# Altium integrated library WS-DITU 2.54 mm piano type compact THT Dip Switch with raised actuator.IntLib: 9 symbols
Pins are listed as number, name and electrical type; pins without a type are passive.

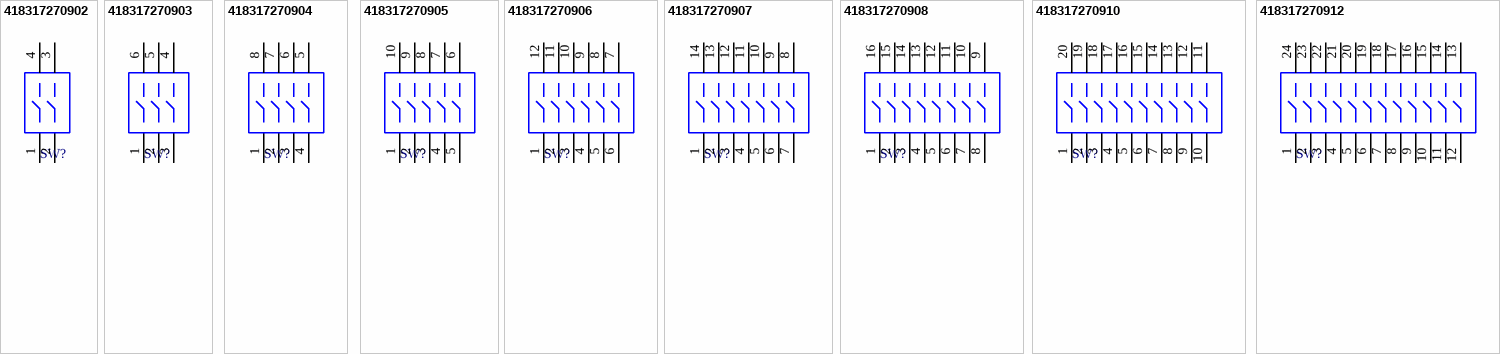
[diagram p0: symbols 418317270902 to 418317270912]

## 418317270902
designator SW?
WS-DITU 2.54 mm piano type compact THT Dip Switch with raised actuator; PartNumber: 418317270902; NoPins: 4; PackageReference: 418317270902; ComponentLink1Description: Manufacturer URL; ComponentLink1URL: http://www.we-online.com; ComponentLink2Description: Datasheet; ComponentLink2URL: http://katalog.we-online.de/em/datasheet/4183172709xx.pdf
footprint 418317270902 (02p, 2.54mm Pitch, Piano, Box Type, THT, raised Actuator, black, without Tape, Tube)
pins: 1, 2, 3, 4

## 418317270903
designator SW?
WS-DITU 2.54 mm piano type compact THT Dip Switch with raised actuator; PartNumber: 418317270903; NoPins: 6; PackageReference: 418317270903; ComponentLink1Description: Manufacturer URL; ComponentLink1URL: http://www.we-online.com; ComponentLink2Description: Datasheet; ComponentLink2URL: http://katalog.we-online.de/em/datasheet/4183172709xx.pdf
footprint 418317270903 (03p, 2.54mm Pitch, Piano, Box Type, THT, raised Actuator, black, without Tape, Tube)
pins: 1, 2, 3, 4, 5, 6

## 418317270904
designator SW?
WS-DITU 2.54 mm piano type compact THT Dip Switch with raised actuator; PartNumber: 418317270904; NoPins: 8; PackageReference: 418317270904; ComponentLink1Description: Manufacturer URL; ComponentLink1URL: http://www.we-online.com; ComponentLink2Description: Datasheet; ComponentLink2URL: http://katalog.we-online.de/em/datasheet/4183172709xx.pdf
footprint 418317270904 (04p, 2.54mm Pitch, Piano, Box Type, THT, raised Actuator, black, without Tape, Tube)
pins: 1, 2, 3, 4, 5, 6, 7, 8

## 418317270905
designator SW?
WS-DITU 2.54 mm piano type compact THT Dip Switch with raised actuator; PartNumber: 418317270905; NoPins: 10; PackageReference: 418317270905; ComponentLink1Description: Manufacturer URL; ComponentLink1URL: http://www.we-online.com; ComponentLink2Description: Datasheet; ComponentLink2URL: http://katalog.we-online.de/em/datasheet/4183172709xx.pdf
footprint 418317270905 (05p, 2.54mm Pitch, Piano, Box Type, THT, raised Actuator, black, without Tape, Tube)
pins: 1, 2, 3, 4, 5, 6, 7, 8, 9, 10

## 418317270906
designator SW?
WS-DITU 2.54 mm piano type compact THT Dip Switch with raised actuator; PartNumber: 418317270906; NoPins: 12; PackageReference: 418317270906; ComponentLink1Description: Manufacturer URL; ComponentLink1URL: http://www.we-online.com; ComponentLink2Description: Datasheet; ComponentLink2URL: http://katalog.we-online.de/em/datasheet/4183172709xx.pdf
footprint 418317270906 (06p, 2.54mm Pitch, Piano, Box Type, THT, raised Actuator, black, without Tape, Tube)
pins: 1, 2, 3, 4, 5, 6, 7, 8, 9, 10, 11, 12

## 418317270907
designator SW?
WS-DITU 2.54 mm piano type compact THT Dip Switch with raised actuator; PartNumber: 418317270907; NoPins: 14; PackageReference: 418317270907; ComponentLink1Description: Manufacturer URL; ComponentLink1URL: http://www.we-online.com; ComponentLink2Description: Datasheet; ComponentLink2URL: http://katalog.we-online.de/em/datasheet/4183172709xx.pdf
footprint 418317270907 (07p, 2.54mm Pitch, Piano, Box Type, THT, raised Actuator, black, without Tape, Tube)
pins: 1, 2, 3, 4, 5, 6, 7, 8, 9, 10, 11, 12, 13, 14

## 418317270908
designator SW?
WS-DITU 2.54 mm piano type compact THT Dip Switch with raised actuator; PartNumber: 418317270908; NoPins: 16; PackageReference: 418317270908; ComponentLink1Description: Manufacturer URL; ComponentLink1URL: http://www.we-online.com; ComponentLink2Description: Datasheet; ComponentLink2URL: http://katalog.we-online.de/em/datasheet/4183172709xx.pdf
footprint 418317270908 (08p, 2.54mm Pitch, Piano, Box Type, THT, raised Actuator, black, without Tape, Tube)
pins: 1, 2, 3, 4, 5, 6, 7, 8, 9, 10, 11, 12, 13, 14, 15, 16

## 418317270910
designator SW?
WS-DITU 2.54 mm piano type compact THT Dip Switch with raised actuator; PartNumber: 418317270910; NoPins: 20; PackageReference: 418317270910; ComponentLink1Description: Manufacturer URL; ComponentLink1URL: http://www.we-online.com; ComponentLink2Description: Datasheet; ComponentLink2URL: http://katalog.we-online.de/em/datasheet/4183172709xx.pdf
footprint 418317270910 (10p, 2.54mm Pitch, Piano, Box Type, THT, raised Actuator, black, without Tape, Tube)
pins: 1, 2, 3, 4, 5, 6, 7, 8, 9, 10, 11, 12, 13, 14, 15, 16, 17, 18, 19, 20

## 418317270912
designator SW?
WS-DITU 2.54 mm piano type compact THT Dip Switch with raised actuator; PartNumber: 418317270912; NoPins: 24; PackageReference: 418317270912; ComponentLink1Description: Manufacturer URL; ComponentLink1URL: http://www.we-online.com; ComponentLink2Description: Datasheet; ComponentLink2URL: http://katalog.we-online.de/em/datasheet/4183172709xx.pdf
footprint 418317270912 (12p, 2.54mm Pitch, Piano, Box Type, THT, raised Actuator, black, without Tape, Tube)
pins: 1, 2, 3, 4, 5, 6, 7, 8, 9, 10, 11, 12, 13, 14, 15, 16, 17, 18, 19, 20, 21, 22, 23, 24